# Altium schematic symbol library THD Miscellaneous Components.SchLib: 17 symbols
Pins are listed as number, name and electrical type; pins without a type are passive.

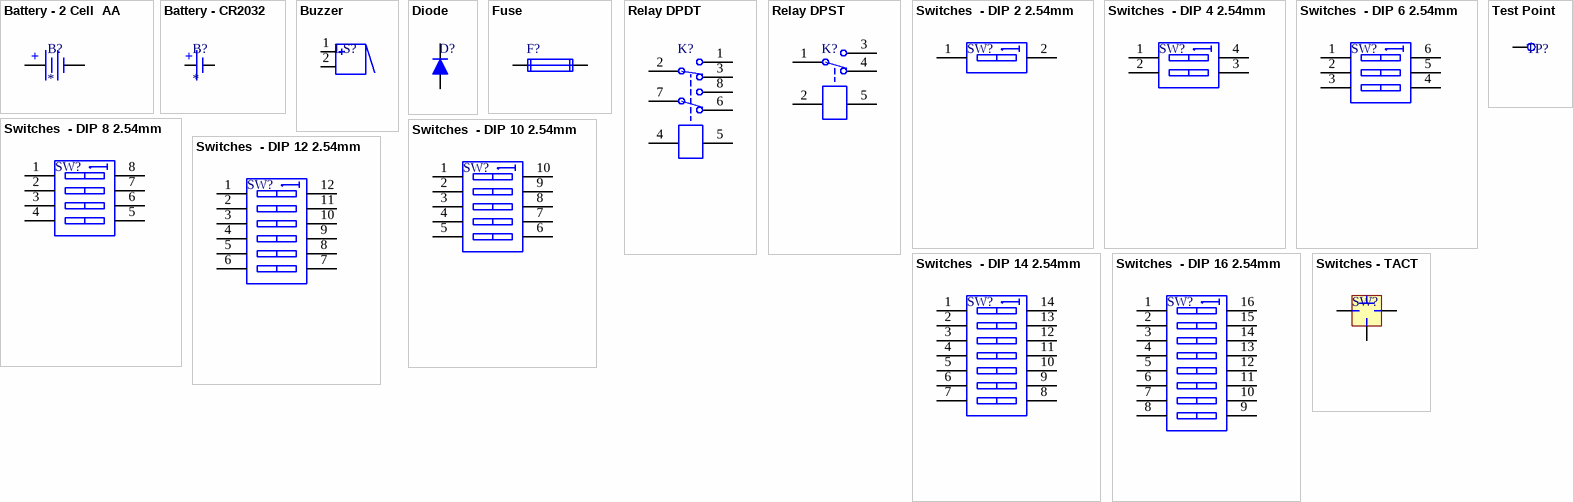
[diagram p0: symbols Battery - 2 Cell  AA to Test Point]

## Battery - 2 Cell  AA
designator B?
footprint KEYSTONE 2462
pins: 1 +, 2 -

## Battery - CR2032
designator B?
footprint BATTERY - 20mm -CR2032
pins: 1 +, 2 -

## Buzzer
designator LS?
12mm Magnetic Transducer Buzzer; Published: 24-Mar-1999; LatestRevisionDate: 17-Dec-2003; LatestRevisionNote: Schematic revised, PCB Footprint replaced.; DatasheetDocument: 17-Dec-2003; PackageReference: ABSM-1574; Publisher: Altium Limited; ComponentLink1Description: Manufacturer Link; ComponentLink1URL: http://www.megastar.com/linecard/buzzmode/index.php
footprint CUI CEM-1212C
pins: 1, 2
1 alternate drawing of the same symbol

## Diode
designator D?
Diode
footprint DO41-300MIL
footprint DO41-400MIL
footprint DO41-500MIL
footprint DO41-GLASS-BLUE-400MIL
footprint DO41-GLASS-DARK-400MIL
footprint DO41-GLASS-RED-400MIL
footprint DO41-GLASS-YELLOW-400MIL
pins: 1 A, 2 K

## Fuse
designator F?
Fuse & Clips; Published: 8-Jun-2000; LatestRevisionDate: 17-Jul-2002; LatestRevisionNote: Re-released for DXP Platform.; PackageReference: PIN-W2/E2.8; Publisher: Altium Limited; PackageDescription: Thru-Hole; 2 Leads
footprint FH-100
pins: 1, 2

## Relay DPDT
designator K?
Dual-Pole Dual-Throw Relay
footprint PANASONIC JW2SN-DC5V (Dual-Pole Dual-Throw Relay; 8 Leads)
pins: 1, 2, 3, 4, 5, 6, 7, 8

## Relay DPST
designator K?
Dual-Pole Single-Throw Relay
footprint TIANBO HRJ-3FF-S-Z (Dual-Pole Singlel-Throw Relay; 5 Leads)
pins: 1, 2, 3, 4, 5

## Switches  - DIP 2 2.54mm
designator SW?
WS-DITV 2.54 mm small compact THT Dip Switch with raised actuator; PartNumber: 418127270901; NoPins: 2; PackageReference: 418127270901; ComponentLink1Description: Manufacturer URL; ComponentLink1URL: http://www.we-online.com; ComponentLink2Description: Datasheet; ComponentLink2URL: http://katalog.we-online.de/em/datasheet/4181272709xx.pdf
footprint DIP-2 WURTH 418127270901 (01p, 2.54mm Pitch, Horizontal, IC Type, THT, raised Actuator, black, without Tape, Tube)
pins: 1, 2

## Switches  - DIP 4 2.54mm
designator SW?
WS-DITV 2.54 mm small compact THT Dip Switch with raised actuator; PartNumber: 418127270902; NoPins: 4; PackageReference: 418127270902; ComponentLink1Description: Manufacturer URL; ComponentLink1URL: http://www.we-online.com; ComponentLink2Description: Datasheet; ComponentLink2URL: http://katalog.we-online.de/em/datasheet/4181272709xx.pdf
footprint DIP-4 WURTH 418127270902 (02p, 2.54mm Pitch, Horizontal, IC Type, THT, raised Actuator, black, without Tape, Tube)
footprint DIP-4 WURTH 418317170902 (02p, 2.54mm Pitch, Piano, Box Type, THT, flat Actuator, black, without Tape, Tube)
pins: 1, 2, 3, 4

## Switches  - DIP 6 2.54mm
designator SW?
WS-DITV 2.54 mm small compact THT Dip Switch with raised actuator; PartNumber: 418127270903; NoPins: 6; PackageReference: 418127270903; ComponentLink1Description: Manufacturer URL; ComponentLink1URL: http://www.we-online.com; ComponentLink2Description: Datasheet; ComponentLink2URL: http://katalog.we-online.de/em/datasheet/4181272709xx.pdf
footprint DIP-6 WURTH 418127270903 (03p, 2.54mm Pitch, Horizontal, IC Type, THT, raised Actuator, black, without Tape, Tube)
footprint DIP-6 WURTH 418317170903 (03p, 2.54mm Pitch, Piano, Box Type, THT, flat Actuator, black, without Tape, Tube)
pins: 1, 2, 3, 4, 5, 6

## Switches  - DIP 8 2.54mm
designator SW?
WS-DITV 2.54 mm small compact THT Dip Switch with raised actuator; PartNumber: 418127270904; NoPins: 8; PackageReference: 418127270904; ComponentLink1Description: Manufacturer URL; ComponentLink1URL: http://www.we-online.com; ComponentLink2Description: Datasheet; ComponentLink2URL: http://katalog.we-online.de/em/datasheet/4181272709xx.pdf
footprint DIP-8 WURTH 418127270904 (04p, 2.54mm Pitch, Horizontal, IC Type, THT, raised Actuator, black, without Tape, Tube)
footprint DIP-8 WURTH 418317170904 (04p, 2.54mm Pitch, Piano, Box Type, THT, flat Actuator, black, without Tape, Tube)
pins: 1, 2, 3, 4, 5, 6, 7, 8

## Switches  - DIP 10 2.54mm
designator SW?
WS-DITV 2.54 mm small compact THT Dip Switch with raised actuator; PartNumber: 418127270905; NoPins: 10; PackageReference: 418127270905; ComponentLink1Description: Manufacturer URL; ComponentLink1URL: http://www.we-online.com; ComponentLink2Description: Datasheet; ComponentLink2URL: http://katalog.we-online.de/em/datasheet/4181272709xx.pdf
footprint DIP-10 WURTH 418127270905 (05p, 2.54mm Pitch, Horizontal, IC Type, THT, raised Actuator, black, without Tape, Tube)
footprint DIP-10 WURTH 418317170905 (05p, 2.54mm Pitch, Piano, Box Type, THT, flat Actuator, black, without Tape, Tube)
pins: 1, 2, 3, 4, 5, 6, 7, 8, 9, 10

## Switches  - DIP 12 2.54mm
designator SW?
WS-DITV 2.54 mm small compact THT Dip Switch with raised actuator; PartNumber: 418127270906; NoPins: 12; PackageReference: 418127270906; ComponentLink1Description: Manufacturer URL; ComponentLink1URL: http://www.we-online.com; ComponentLink2Description: Datasheet; ComponentLink2URL: http://katalog.we-online.de/em/datasheet/4181272709xx.pdf
footprint DIP-12 WURTH 418127270906 (06p, 2.54mm Pitch, Horizontal, IC Type, THT, raised Actuator, black, without Tape, Tube)
footprint DIP-12 WURTH 418317170906 (06p, 2.54mm Pitch, Piano, Box Type, THT, flat Actuator, black, without Tape, Tube)
pins: 1, 2, 3, 4, 5, 6, 7, 8, 9, 10, 11, 12

## Switches  - DIP 14 2.54mm
designator SW?
WS-DITV 2.54 mm small compact THT Dip Switch with raised actuator; PartNumber: 418127270907; NoPins: 14; PackageReference: 418127270907; ComponentLink1Description: Manufacturer URL; ComponentLink1URL: http://www.we-online.com; ComponentLink2Description: Datasheet; ComponentLink2URL: http://katalog.we-online.de/em/datasheet/4181272709xx.pdf
footprint DIP-14 WURTH 418127270907 (07p, 2.54mm Pitch, Horizontal, IC Type, THT, raised Actuator, black, without Tape, Tube)
footprint DIP-14 WURTH 418317170907 (07p, 2.54mm Pitch, Piano, Box Type, THT, flat Actuator, black, without Tape, Tube)
pins: 1, 2, 3, 4, 5, 6, 7, 8, 9, 10, 11, 12, 13, 14

## Switches  - DIP 16 2.54mm
designator SW?
WS-DITV 2.54 mm small compact THT Dip Switch with raised actuator; PartNumber: 418127270908; NoPins: 16; PackageReference: 418127270908; ComponentLink1Description: Manufacturer URL; ComponentLink1URL: http://www.we-online.com; ComponentLink2Description: Datasheet; ComponentLink2URL: http://katalog.we-online.de/em/datasheet/4181272709xx.pdf
footprint DIP-16 WURTH 418127270908 (08p, 2.54mm Pitch, Horizontal, IC Type, THT, raised Actuator, black, without Tape, Tube)
footprint DIP-16 WURTH 418317170908 (08p, 2.54mm Pitch, Piano, Box Type, THT, flat Actuator, black, without Tape, Tube)
pins: 1, 2, 3, 4, 5, 6, 7, 8, 9, 10, 11, 12, 13, 14, 15, 16

## Switches - TACT
designator SW?
footprint OMRON 20050 6x6mm or ALPS SKHH-3
pins: 1, 2, 3, 4, 5

## Test Point
designator TP?
Test Point
footprint HDR1X1-TP (Connector; Header; 2 Position)
pins: 1